# Altium footprint library Semi Conductor.PcbLib: 63 footprints (part 4 of 4)
Each footprint in its own frame and in the unit in brackets; x right, y up, seen from the top. Pads: shape width x height; smd on the part's side, far side on the other; paste and mask are expansions set on the pad; w line width, h text height; cw(c..) or ccw(c..) is an arc to the next point about the centre after c.
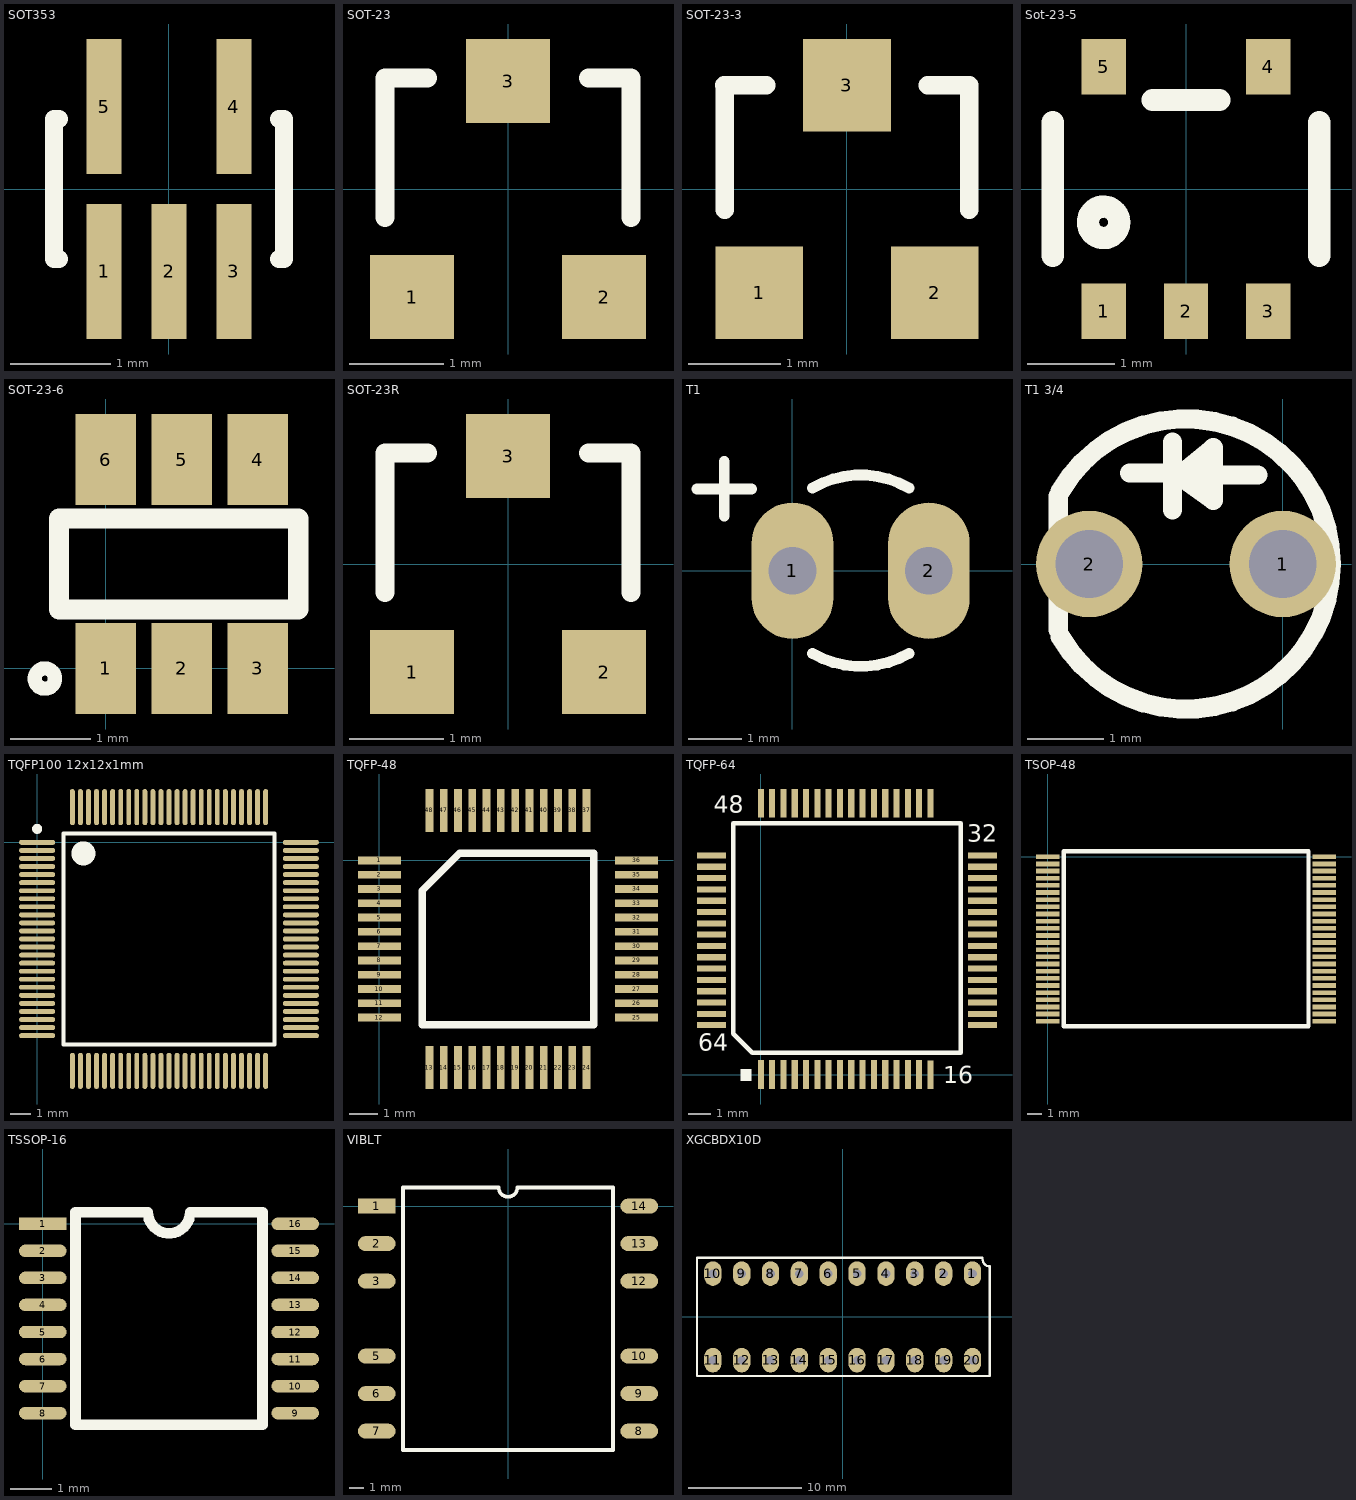
[diagram p3: the footprints below, top view; thin cyan lines are the x and y axes]

## SOT353 [mm]
height 1.016
pads (5):
  rect 0.35x1.35 smd: 1(-0.65,-0.825) 2(0,-0.825) 3(0.65,-0.825) 4(0.65,0.825) 5(-0.65,0.825)
TopOverlay:
  lines w0.178: -1.1,-0.7 -1.15,-0.7 -1.15,0.7 -1.1,0.7 ; 1.1,-0.7 1.15,-0.7 1.15,0.7 1.1,0.7

## SOT-23 [mil]
height 40
pads (3):
  rect 35x35 smd: 1(-40,-45) 2(40,-45) 3(0,45)
TopOverlay:
  lines w7.87: -51.18,-11.81 -51.18,46.26 -33.46,46.26 ; 33.47,46.26 51.18,46.26 51.18,-11.81
3D body: height 42.52, standoff 0, extent -59,-53 59.11,50.94

## SOT-23-3 [mm]
pads (3):
  rect 0.95x1 smd: 1(-0.95,-1.125) 2(0.95,-1.125) 3(0,1.125)
TopOverlay:
  lines w0.2: -1.328,1.125 -0.875,1.125 ; -1.325,-0.225 -1.325,1.125 ; 0.875,1.125 1.325,1.125 1.325,-0.225

## Sot-23-5 [mil]
pads (5):
  rect 20x25 smd: 1(-37,-55) 2(0,-55) 3(37,-55) 4(37,55) 5(-37,55)
TopOverlay:
  circle w10: c-37.07,-15 r7.07
  lines w10: -60,-30 -60,30 ; -15,40 15,40 ; 60,-30 60,30
3D body: height 56.69, standoff -0.8, extent -59.06,-59.06 59.05,59.05

## SOT-23-6 [mil]
pads (6):
  rect 30x45 smd: 1(0,0) 2(37.5,0) 3(75,0) 4(75,103) 5(37.5,103) 6(0,103)
TopOverlay:
  circle w7: c-30,-5 r5
  lines w10: -23,29 95,29 95,74 -23,74 -23,29
3D body: height 43.6, standoff 0.6, extent -17.42,3.58 92.58,99.08

## SOT-23R [mil]
pads (3):
  rect 35x35 smd: 1(-40,-45) 2(40,-45) 3(0,45)
TopOverlay:
  lines w7.87: -51.18,-11.81 -51.18,46.26 -33.46,46.26 ; 33.47,46.26 51.18,46.26 51.18,-11.81
3D body: height 42.52, standoff 0, extent -59,-53 59.11,50.94

## T1 [mil]
pads (2):
  oval 60x100 / inner round 35 / far side oval 60x100 hole 35: 1(0,0) 2(100,0)
TopOverlay:
  lines w8: -70,60 -30,60 ; -50,40 -50,80 ; 14.64,-60.62 ccw(c50,0) 85.36,-60.62 ; 14.64,60.62 cw(c50,0) 85.36,60.62

## T1 3/4 [mil]
pads (2):
  round 55 hole 35: 1(0,0) 2(-100,0)
TopOverlay:
  lines w10: -116,-34 -116,35 ; -114.95,-37.5 ccw(c-50,0) -114.95,37.5 ; -79,47 -55,47 ; -57,28 -57,63 ; -54,46 -36,33 -36,60 -53,46 -13,46
3D body: height 339.18, standoff -243.49, extent -146.09,-118.48 67.3,118.51

## TQFP100 12x12x1mm [mm]
pads (100):
  oval 1.8x0.24 smd: 1(0,0) 2(0,-0.4) 3(0,-0.8) 4(0,-1.2) 5(0,-1.6) 6(0,-2) 7(0,-2.4) 8(0,-2.8) 9(0,-3.2) 10(0,-3.6) 11(0,-4) 12(0,-4.4) 13(0,-4.8) 14(0,-5.2) 15(0,-5.6) 16(0,-6) 17(0,-6.4) 18(0,-6.8) 19(0,-7.2) 20(0,-7.6) 21(0,-8) 22(0,-8.4) 23(0,-8.8) 24(0,-9.2) 25(0,-9.6) 51(13.1,-9.6) 52(13.1,-9.2) 53(13.1,-8.8) 54(13.1,-8.4) 55(13.1,-8) 56(13.1,-7.6) 57(13.1,-7.2) 58(13.1,-6.8) 59(13.1,-6.4) 60(13.1,-6) 61(13.1,-5.6) 62(13.1,-5.2) 63(13.1,-4.8) 64(13.1,-4.4) 65(13.1,-4) 66(13.1,-3.6) 67(13.1,-3.2) 68(13.1,-2.8) 69(13.1,-2.4) 70(13.1,-2) 71(13.1,-1.6) 72(13.1,-1.2) 73(13.1,-0.8) 74(13.1,-0.4) 75(13.1,0)
  oval 0.24x1.8 smd: 26(1.75,-11.35) 27(2.15,-11.35) 28(2.55,-11.35) 29(2.95,-11.35) 30(3.35,-11.35) 31(3.75,-11.35) 32(4.15,-11.35) 33(4.55,-11.35) 34(4.95,-11.35) 35(5.35,-11.35) 36(5.75,-11.35) 37(6.15,-11.35) 38(6.55,-11.35) 39(6.95,-11.35) 40(7.35,-11.35) 41(7.75,-11.35) 42(8.15,-11.35) 43(8.55,-11.35) 44(8.95,-11.35) 45(9.35,-11.35) 46(9.75,-11.35) 47(10.15,-11.35) 48(10.55,-11.35) 49(10.95,-11.35) 50(11.35,-11.35) 76(11.35,1.75) 77(10.95,1.75) 78(10.55,1.75) 79(10.15,1.75) 80(9.75,1.75) 81(9.35,1.75) 82(8.95,1.75) 83(8.55,1.75) 84(8.15,1.75) 85(7.75,1.75) 86(7.35,1.75) 87(6.95,1.75) 88(6.55,1.75) 89(6.15,1.75) 90(5.75,1.75) 91(5.35,1.75) 92(4.95,1.75) 93(4.55,1.75) 94(4.15,1.75) 95(3.75,1.75) 96(3.35,1.75) 97(2.95,1.75) 98(2.55,1.75) 99(2.15,1.75) 100(1.75,1.75)
TopOverlay:
  circle w0.25: c0,0.67 r0.125
  circle w0.6: c2.3,-0.55 r0.3
  lines w0.2: 1.3,-10.05 1.3,0.45 11.8,0.45 11.8,-10.05 1.3,-10.05
3D body: height 1.35, standoff 0, extent -0.458,-11.812 13.564,2.211

## TQFP-48 [mm]
pads (48):
  rect 1.5x0.27 smd: 1(0,0) 2(0,-0.5) 3(0,-1) 4(0,-1.5) 5(0,-2) 6(0,-2.5) 7(0,-3) 8(0,-3.5) 9(0,-4) 10(0,-4.5) 11(0,-5) 12(0,-5.5) 25(9,-5.5) 26(9,-5) 27(9,-4.5) 28(9,-4) 29(9,-3.5) 30(9,-3) 31(9,-2.5) 32(9,-2) 33(9,-1.5) 34(9,-1) 35(9,-0.5) 36(9,0)
  rect 0.27x1.5 smd: 13(1.75,-7.25) 14(2.25,-7.25) 15(2.75,-7.25) 16(3.25,-7.25) 17(3.75,-7.25) 18(4.25,-7.25) 19(4.75,-7.25) 20(5.25,-7.25) 21(5.75,-7.25) 22(6.25,-7.25) 23(6.75,-7.25) 24(7.25,-7.25) 37(7.25,1.75) 38(6.75,1.75) 39(6.25,1.75) 40(5.75,1.75) 41(5.25,1.75) 42(4.75,1.75) 43(4.25,1.75) 44(3.75,1.75) 45(3.25,1.75) 46(2.75,1.75) 47(2.25,1.75) 48(1.75,1.75)
TopOverlay:
  lines w0.254: 1.5,-5.75 7.5,-5.75 7.5,0.25 2.8,0.25 1.5,-1.05 1.5,-5.75
  text "." at 0.025,0.711 h0.5
3D body: height 1.54, standoff 0.08, extent 0,-7.239 9,1.761

## TQFP-64 [mm]
height 2.032
pads (64):
  rect 0.27x1.27 smd: 1(0,0) 2(0.5,0) 3(1,0) 4(1.5,0) 5(2,0) 6(2.5,0) 7(3,0) 8(3.5,0) 9(4,0) 10(4.5,0) 11(5,0) 12(5.5,0) 13(6,0.003) 14(6.5,0) 15(7,0) 16(7.5,-0.004) 33(7.5,11.988) 34(7,11.988) 35(6.5,11.988) 36(6,11.988) 37(5.5,11.988) 38(5,11.988) 39(4.5,11.988) 40(4,11.988) 41(3.5,11.988) 42(3,11.988) 43(2.5,11.988) 44(2,11.988) 45(1.5,11.988) 46(1,11.988) 47(0.5,11.988) 48(0,11.988)
  rect 1.27x0.27 smd: 17(9.804,2.184) 18(9.804,2.684) 19(9.804,3.184) 20(9.804,3.684) 21(9.804,4.184) 22(9.804,4.684) 23(9.804,5.184) 24(9.804,5.684) 25(9.804,6.184) 26(9.804,6.684) 27(9.804,7.184) 28(9.804,7.684) 29(9.804,8.184) 30(9.804,8.684) 31(9.804,9.184) 32(9.804,9.684) 49(-2.184,9.684) 50(-2.184,9.184) 51(-2.184,8.684) 52(-2.184,8.184) 53(-2.184,7.684) 54(-2.184,7.184) 55(-2.184,6.684) 56(-2.184,6.184) 57(-2.184,5.684) 58(-2.184,5.184) 59(-2.184,4.684) 60(-2.184,4.184) 61(-2.184,3.684) 62(-2.184,3.184) 63(-2.184,2.684) 64(-2.184,2.184)
TopOverlay:
  rectangle: -0.901,-0.283 -0.403,0.242
  lines w0.2: -1.222,1.803 -1.221,11.104 8.838,11.104 ; -1.219,1.803 -0.381,0.965 8.839,0.965 8.839,10.237
  lines w0.203: 8.839,10.237 8.839,11.102
  text "." at -0.127,1.422 h1.52
  text "16" at 8.054,-0.378 h0.76
  text "32" at 9.121,10.289 h0.76
  text "48" at -2.084,11.566 h0.76
  text "64" at -2.766,1.044 h0.76
3D body: height 1.02, standoff 0.02, extent -2.035,0.151 9.546,11.726

## TSOP-48 [mil]
height 80
pads (48):
  rect 65x13 smd: 1(0,0) 2(0,-19.68) 3(0,-39.37) 4(0,-59.06) 5(0,-78.74) 6(0,-98.43) 7(0,-118.11) 8(0,-137.8) 9(0,-157.48) 10(0,-177.17) 11(0,-196.85) 12(0,-216.54) 13(0,-236.22) 14(0,-255.91) 15(0,-275.59) 16(0,-295.28) 17(0,-314.96) 18(0,-334.65) 19(0,-354.33) 20(0,-374.02) 21(0,-393.7) 22(0,-413.39) 23(0,-433.07) 24(0,-452.76) 25(760.71,-452.76) 26(760.71,-433.07) 27(760.71,-413.39) 28(760.71,-393.7) 29(760.71,-374.02) 30(760.71,-354.33) 31(760.71,-334.65) 32(760.71,-314.96) 33(760.71,-295.28) 34(760.71,-275.59) 35(760.71,-255.91) 36(760.71,-236.22) 37(760.71,-216.54) 38(760.71,-196.85) 39(760.71,-177.17) 40(760.71,-157.48) 41(760.71,-137.8) 42(760.71,-118.11) 43(760.71,-98.43) 44(760.71,-78.74) 45(760.71,-59.06) 46(760.71,-39.37) 47(760.71,-19.68) 48(760.71,0)
TopOverlay:
  lines w12: 43.52,-466.3 43.52,14.7 717.52,14.7 717.52,-466.3 43.52,-466.3
  text "." at 74.52,-24.3 h80
3D body: height 43.47, standoff 0.53, extent -11.89,-462.67 775.64,9.77

## TSSOP-16 [mil]
height 65
pads (16):
  rect 45x11.8 smd: 1(0,0)
  oval 45x11.8 smd: 2(0,-25.6) 3(0,-51.2) 4(0,-76.8) 5(0,-102.4) 6(0,-128) 7(0,-153.6) 8(0,-179.2) 9(239,-179.2) 10(239,-153.6) 11(239,-128) 12(239,-102.4) 13(239,-76.8) 14(239,-51.2) 15(239,-25.6) 16(239,0)
TopOverlay:
  lines w10: 31,-190 208,-190 208,11 139.5,11 cw(c119.5,11) 99.5,11 31,11 31,-190
Mechanical4:
  text ".040" at -6,0 h1
3D body: height 41.69, standoff -1.62, extent -7.4,-190.07 244.57,10.72

## VIBLT [mil]
pads (12):
  rect 100x40 smd: 1(-350,0)
  oval 100x40 smd: 2(-350,-100) 3(-350,-200) 5(-350,-400) 6(-350,-500) 7(-350,-600) 8(350,-600) 9(350,-500) 10(350,-400) 12(350,-200) 13(350,-100) 14(350,0)
TopOverlay:
  lines w10: -280,-650 280,-650 280,50 25,50 cw(c0,50) -25,50 -280,50 -280,-650

## XGCBDX10D [mil]
pads (20):
  oval 60x85 hole 30: 1(450,150) 2(350,150) 3(250,150) 4(150,150) 5(50,150) 6(-50,150) 7(-150,150) 8(-250,150) 9(-350,150) 10(-450,150) 11(-450,-150) 12(-350,-150) 13(-250,-150) 14(-150,-150) 15(-50,-150) 16(50,-150) 17(150,-150) 18(250,-150) 19(350,-150) 20(450,-150)
TopOverlay:
  lines w8: -505,-205 -505,205 485,205 485,200 ccw(c510,200) 510,175 510,-205 -505,-205
3D body: height 267.72, standoff -275.59, extent -500,-200 500,200